# Altium schematic symbol library elec_10uF_cap.SchLib: 1 symbol
Pins are listed as number, name and electrical type; pins without a type are passive.

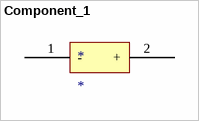
[diagram p0: symbol Component_1]

## Component_1
designator *
footprint elec_10uF
pins: 1 -, 2 +